# EAGLE library part MPU6000 (library KwanSystems)
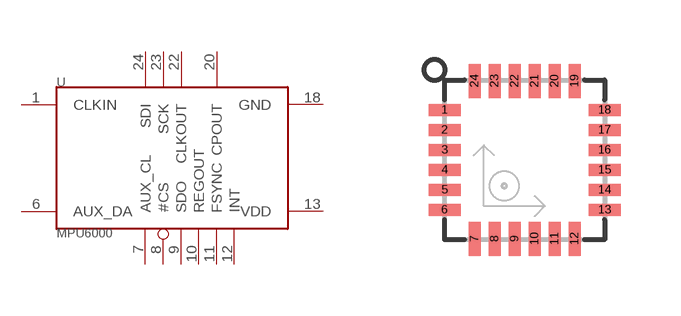
[diagram p17: symbol with the pads of MPU60X0; footprint MPU60X0]

Designator prefix -

## MPU6000  [MPU60X0]
1  CLKIN  in
6  AUX_DA
7  AUX_CL
8  #CS
9  SDO  out
10  REGOUT
11  FSYNC
12  INT  out
13  VDD  pwr
18  GND  pwr
20  CPOUT  out
22  CLKOUT
23  SCK
24  SDI

## Footprint MPU60X0 (pad centres in mm)
smd 0.8 x 0.3: 1 -2,1.25; 2 -2,0.75; 3 -2,0.25; 4 -2,-0.25; 5 -2,-0.75; 6 -2,-1.25; 13 2,-1.25; 14 2,-0.75; 15 2,-0.25; 16 2,0.25; 17 2,0.75; 18 2,1.25
smd 0.3 x 0.85: 7 -1.25,-1.975; 8 -0.75,-1.975; 9 -0.25,-1.975; 10 0.25,-1.975; 11 0.75,-1.975; 12 1.25,-1.975; 19 1.25,1.975; 20 0.75,1.975; 21 0.25,1.975; 22 -0.25,1.975; 23 -0.75,1.975; 24 -1.25,1.975